# Altium footprint library Resistance.PcbLib: 20 footprints (part 1 of 2)
Each footprint in its own frame and in the unit in brackets; x right, y up, seen from the top. Pads: shape width x height; smd on the part's side, far side on the other; paste and mask are expansions set on the pad; w line width, h text height; cw(c..) or ccw(c..) is an arc to the next point about the centre after c.
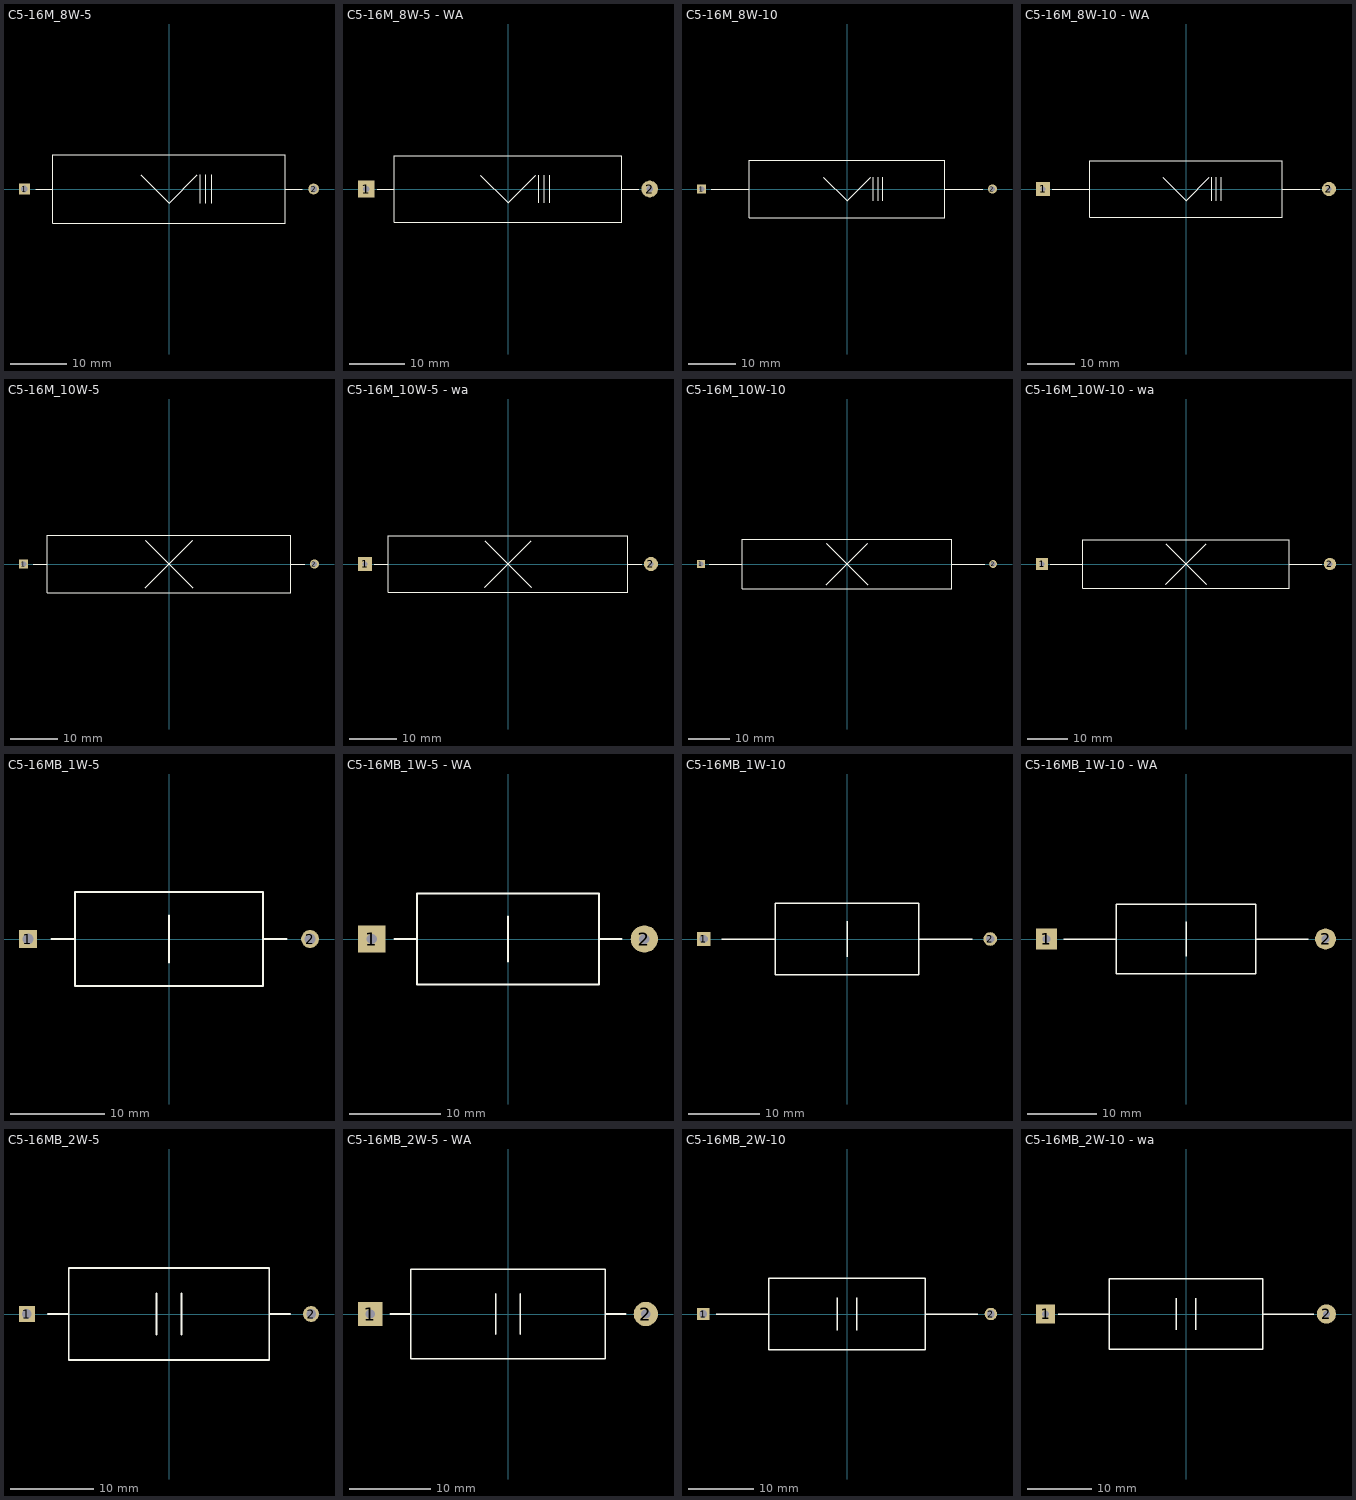
[diagram p0: the footprints below, top view; thin cyan lines are the x and y axes]

## С5-16М_8W-5 [mm] "Резистор - 8 Вт  постоянный, проволочный прецизионный. D=12mm,  L=41mm, l=20mm - вывод"
height 12
pads (2):
  rect 1.9x1.9 hole 1.15: 1(-25.5,0)
  round 1.9 hole 1.15: 2(25.5,0)
Top Overlay:
  lines w0.2: -23.5,0 -20.5,0 ; -5,2.5 0,-2.5 5,2.5 ; 5.5,-2.5 5.5,2.5 ; 6.5,-2.5 6.5,2.5 ; 7.5,-2.5 7.5,2.5 ; 20.5,0 23.5,0 ; -20.5,-6 20.5,-6 20.5,6 -20.5,6 -20.5,-6

## С5-16М_8W-5 - WA [mm] "Резистор - 8 Вт  постоянный, проволочный прецизионный. D=12mm,  L=41mm, l=20mm - вывод"
height 12
pads (2):
  rect 3x3 hole 1.15: 1(-25.5,0)
  round 3 hole 1.15: 2(25.5,0)
Top Overlay:
  lines w0.2: -23.5,0 -20.5,0 ; -5,2.5 0,-2.5 5,2.5 ; 5.5,-2.5 5.5,2.5 ; 6.5,-2.5 6.5,2.5 ; 7.5,-2.5 7.5,2.5 ; 20.5,0 23.5,0 ; -20.5,-6 20.5,-6 20.5,6 -20.5,6 -20.5,-6

## С5-16М_8W-10 [mm] "Резистор - 8 Вт  постоянный, проволочный прецизионный. D=12mm,  L=41mm, l=20mm - вывод"
height 12
pads (2):
  rect 1.9x1.9 hole 1.15: 1(-30.5,0)
  round 1.9 hole 1.15: 2(30.5,0)
Top Overlay:
  lines w0.2: -28.5,0 -20.5,0 ; -5,2.5 0,-2.5 5,2.5 ; 5.5,-2.5 5.5,2.5 ; 6.5,-2.5 6.5,2.5 ; 7.5,-2.5 7.5,2.5 ; 20.5,0 28.5,0 ; -20.5,-6 20.5,-6 20.5,6 -20.5,6 -20.5,-6

## С5-16М_8W-10 - WA [mm] "Резистор - 8 Вт  постоянный, проволочный прецизионный. D=12mm,  L=41mm, l=20mm - вывод"
height 12
pads (2):
  rect 3x3 hole 1.15: 1(-30.5,0)
  round 3 hole 1.15: 2(30.5,0)
Top Overlay:
  lines w0.2: -28.5,0 -20.5,0 ; -5,2.5 0,-2.5 5,2.5 ; 5.5,-2.5 5.5,2.5 ; 6.5,-2.5 6.5,2.5 ; 7.5,-2.5 7.5,2.5 ; 20.5,0 28.5,0 ; -20.5,-6 -20.5,6 20.5,6 20.5,-6 -20.5,-6

## С5-16М_10W-5 [mm] "Резистор - 10 Вт  постоянный, проволочный прецизионный. D=12mm,  L=51mm, l=20mm - вывод"
height 12
pads (2):
  rect 1.9x1.9 hole 1.15: 1(-30.5,0)
  round 1.9 hole 1.15: 2(30.5,0)
Top Overlay:
  lines w0.2: -28.5,0 -25.5,0 ; -5,-5 5,5 ; -5,5 5,-5 ; 25.5,0 28.5,0 ; -25.5,-6 -25.5,6 25.5,6 25.5,-6 -25.5,-6

## С5-16М_10W-5 - wa [mm] "Резистор - 10 Вт  постоянный, проволочный прецизионный. D=12mm,  L=51mm, l=20mm - вывод"
height 12
pads (2):
  rect 3x3 hole 1.15: 1(-30.5,0)
  round 3 hole 1.15: 2(30.5,0)
Top Overlay:
  lines w0.2: -28.5,0 -25.5,0 ; -5,-5 5,5 ; -5,5 5,-5 ; 25.5,0 28.5,0 ; -25.5,-6 -25.5,6 25.5,6 25.5,-6 -25.5,-6

## С5-16М_10W-10 [mm] "Резистор - 10 Вт  постоянный, проволочный прецизионный. D=12mm,  L=51mm, l=20mm - вывод"
height 12
pads (2):
  rect 1.9x1.9 hole 1.15: 1(-35.5,0)
  round 1.9 hole 1.15: 2(35.5,0)
Top Overlay:
  lines w0.2: -33.5,0 -25.5,0 ; -5,-5 5,5 ; -5,5 5,-5 ; 25.5,0 33.5,0 ; -25.5,-6 -25.5,6 25.5,6 25.5,-6 -25.5,-6

## С5-16М_10W-10 - wa [mm] "Резистор - 10 Вт  постоянный, проволочный прецизионный. D=12mm,  L=51mm, l=20mm - вывод"
height 12
pads (2):
  rect 3x3 hole 1.15: 1(-35.5,0)
  round 3 hole 1.15: 2(35.5,0)
Top Overlay:
  lines w0.2: -33.5,0 -25.5,0 ; -5,-5 5,5 ; -5,5 5,-5 ; 25.5,0 33.5,0 ; -25.5,-6 -25.5,6 25.5,6 25.5,-6 -25.5,-6

## С5-16МВ_1W-5 [mm] "Резистор - 1 Вт  постоянный, проволочный прецизионный. D=9mm,  L=19mm, l=20mm - вывод"
height 9
pads (2):
  rect 1.9x1.9 hole 1.15: 1(-15,0)
  round 1.9 hole 1.15: 2(15,0)
Top Overlay:
  lines w0.2: -12.5,0 -10,0 ; 0,-2.5 0,2.5 ; 10,0 12.5,0 ; -10,-5 10,-5 10,5 -10,5 -10,-5

## С5-16МВ_1W-5 - WA [mm] "Резистор - 1 Вт  постоянный, проволочный прецизионный. D=9mm,  L=19mm, l=20mm - вывод"
height 9
pads (2):
  rect 3x3 hole 1.15: 1(-15,0)
  round 3 hole 1.15: 2(15,0)
Top Overlay:
  lines w0.2: -12.5,0 -10,0 ; 0,-2.5 0,2.5 ; 10,0 12.5,0 ; -10,-5 -10,5 10,5 10,-5 -10,-5

## С5-16МВ_1W-10 [mm] "Резистор - 1 Вт  постоянный, проволочный прецизионный. D=9mm,  L=19mm, l=20mm - вывод"
height 9
pads (2):
  rect 1.9x1.9 hole 1.15: 1(-20,0)
  round 1.9 hole 1.15: 2(20,0)
Top Overlay:
  lines w0.2: -17.5,0 -10,0 ; 0,-2.5 0,2.5 ; 10,0 17.5,0 ; -10,-5 10,-5 10,5 -10,5 -10,-5

## С5-16МВ_1W-10 - WA [mm] "Резистор - 1 Вт  постоянный, проволочный прецизионный. D=9mm,  L=19mm, l=20mm - вывод"
height 9
pads (2):
  rect 3x3 hole 1.15: 1(-20,0)
  round 3 hole 1.15: 2(20,0)
Top Overlay:
  lines w0.2: -17.5,0 -10,0 ; 0,-2.5 0,2.5 ; 10,0 17.5,0 ; -10,-5 10,-5 10,5 -10,5 -10,-5

## С5-16МВ_2W-5 [mm] "Резистор - 2 Вт  постоянный, проволочный прецизионный. D=11mm,  L=24mm, l=20mm - вывод"
height 11
pads (2):
  rect 1.9x1.9 hole 1.15: 1(-17,0)
  round 1.9 hole 1.15: 2(17,0)
Top Overlay:
  lines w0.2: -14.5,0 -12,0 ; -1.5,-2.5 -1.5,2.5 ; 1.5,-2.5 1.5,2.5 ; 12,0 14.5,0 ; -12,-5.5 12,-5.5 12,5.5 -12,5.5 -12,-5.5

## С5-16МВ_2W-5 - WA [mm] "Резистор - 2 Вт  постоянный, проволочный прецизионный. D=11mm,  L=24mm, l=20mm - вывод"
height 11
pads (2):
  rect 3x3 hole 1.15: 1(-17,0)
  round 3 hole 1.15: 2(17,0)
Top Overlay:
  lines w0.2: -14.5,0 -12,0 ; -1.5,-2.5 -1.5,2.5 ; 1.5,-2.5 1.5,2.5 ; 12,0 14.5,0 ; -12,-5.5 -12,5.5 12,5.5 12,-5.5 -12,-5.5

## С5-16МВ_2W-10 [mm] "Резистор - 2 Вт  постоянный, проволочный прецизионный. D=11mm,  L=24mm, l=20mm - вывод"
height 11
pads (2):
  rect 1.9x1.9 hole 1.15: 1(-22,0)
  round 1.9 hole 1.15: 2(22,0)
Top Overlay:
  lines w0.2: -20,0 -12,0 ; -1.5,-2.5 -1.5,2.5 ; 1.5,-2.5 1.5,2.5 ; 12,0 20,0 ; -12,-5.5 -12,5.5 12,5.5 12,-5.5 -12,-5.5

## С5-16МВ_2W-10 - wa [mm] "Резистор - 2 Вт  постоянный, проволочный прецизионный. D=11mm,  L=24mm, l=20mm - вывод"
height 11
pads (2):
  rect 3x3 hole 1.15: 1(-22,0)
  round 3 hole 1.15: 2(22,0)
Top Overlay:
  lines w0.2: -20,0 -12,0 ; -1.5,-2.5 -1.5,2.5 ; 1.5,-2.5 1.5,2.5 ; 12,0 20,0 ; -12,-5.5 12,-5.5 12,5.5 -12,5.5 -12,-5.5